# EAGLE library part 61800929221 (library USB_c_conn)
WR-DSUB Male PCB Connector with Hex Screw 9 Pins=>Code : Con_I-O_DSUB_PCB_Male_w-screw_61800929221 <https://katalog.we-online.com/media/images/v2/o33089v209%20Family_WR-DSUB_6180xx29221.jpg> Details see: https://katalog.we-online.com/en/em/DSUB_MALE_PCB_CONNECTOR_W_HEX_SCREW_6180XX29221 Updated by Ella Wu 2019-03-15 2019 (C) Würth Elektronik
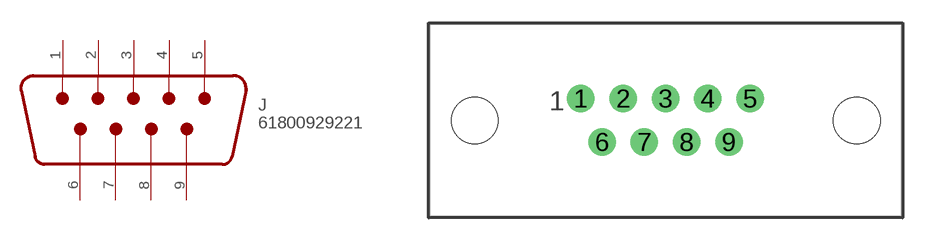
[diagram p8: symbol with the pads of 61800929221; footprint 61800929221]

Designator prefix J

## 61800929221 (WE-NUMBER: 61800929221)  [61800929221]
1  1
2  2
3  3
4  4
5  5
6  6
7  7
8  8
9  9

## Footprint 61800929221 (pad centres in mm)
WR-DSUB Male PCB Connector with Hex Screw, 9 Pins
drill 1.2: 1 -5.55,1.42; 2 -2.78,1.42; 3 -0.01,1.42; 4 2.76,1.42; 5 5.53,1.42; 6 -4.165,-1.42; 7 -1.395,-1.42; 8 1.375,-1.42; 9 4.145,-1.42
hole 3.05 at -12.5,0
hole 3.05 at 12.5,0